# Altium integrated library TI Data Converters Digital to Analog Converter.IntLib: 1533 symbols (part 13 of 99)
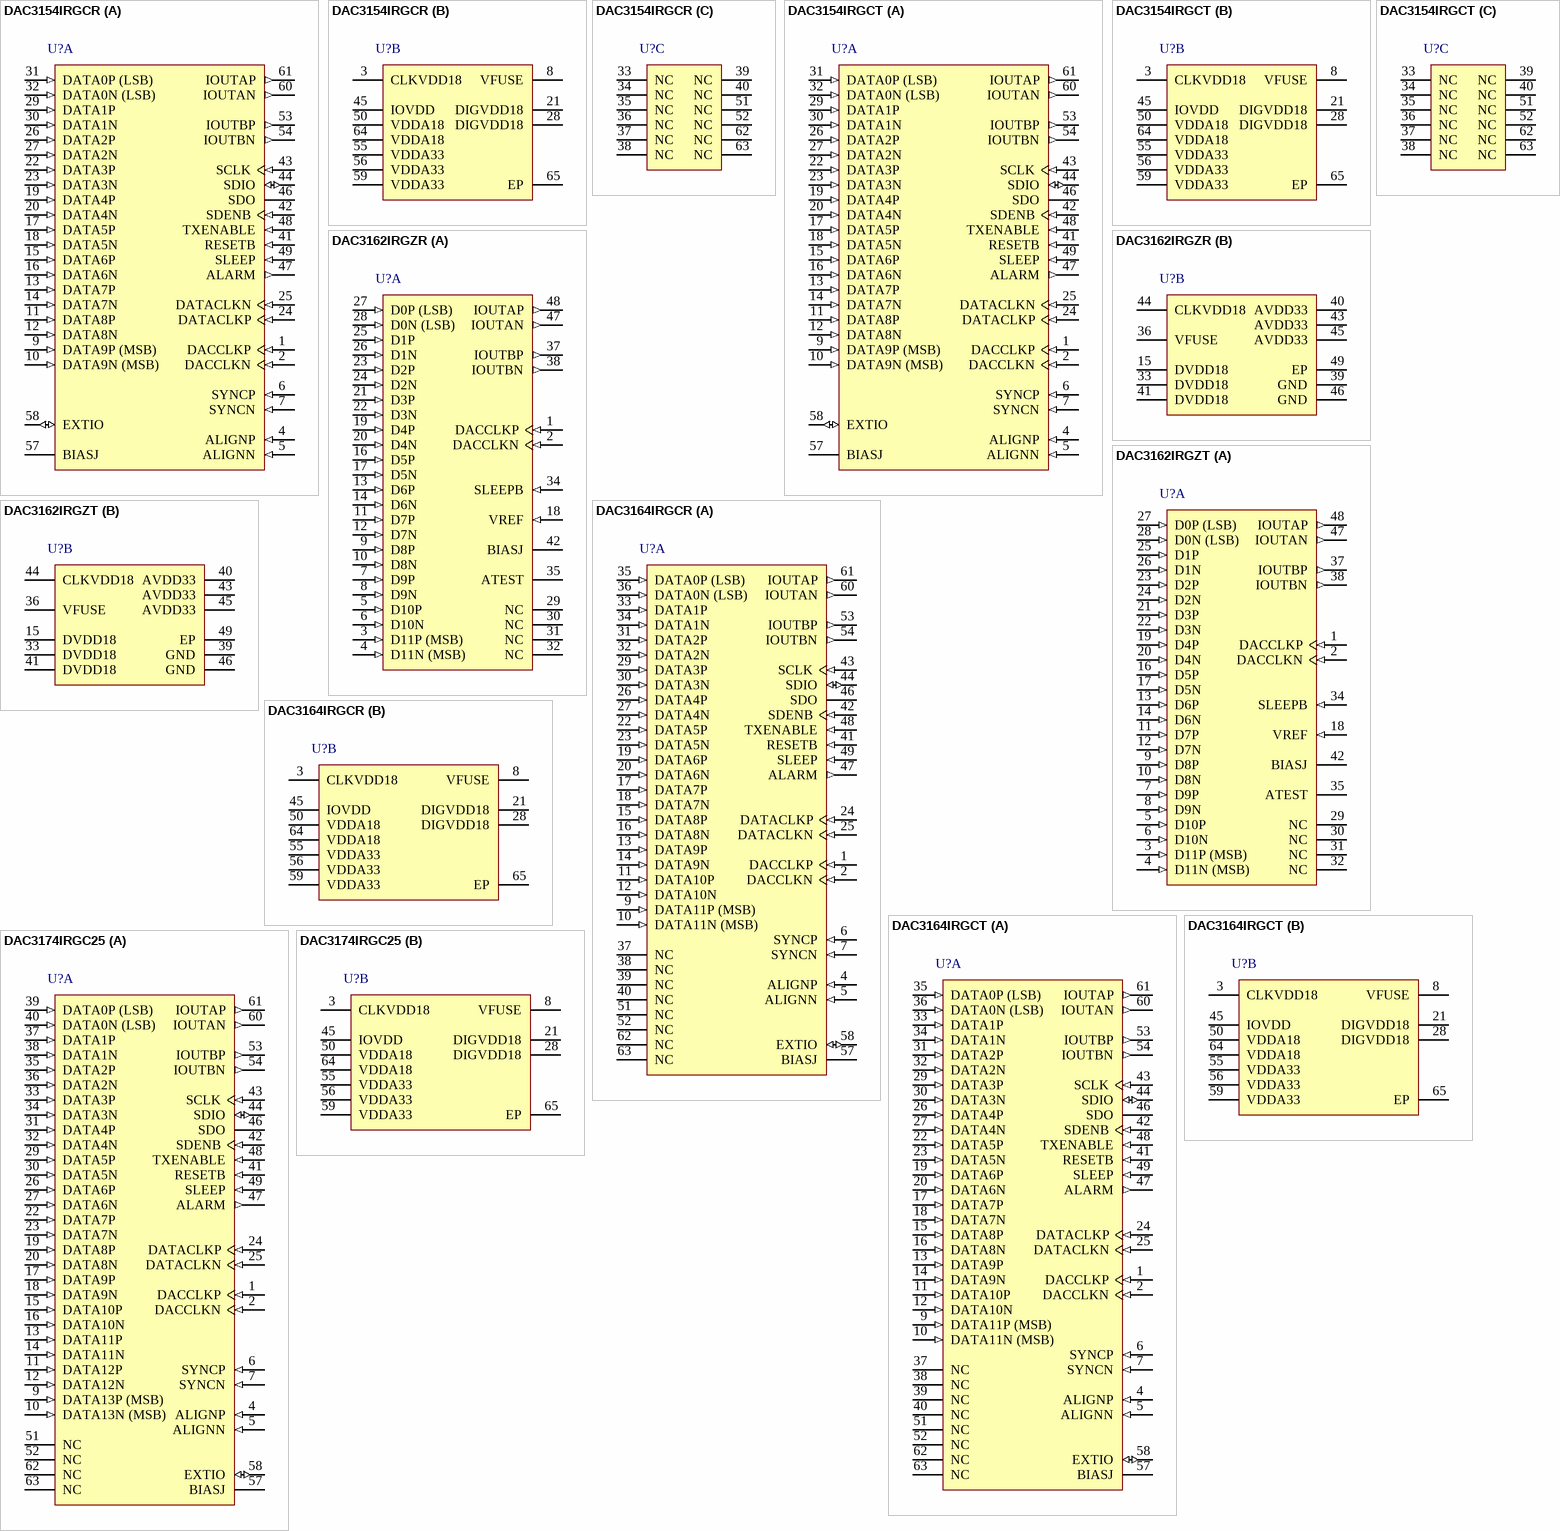
[diagram p85: symbols DAC3154IRGCR to DAC3174IRGC25]

## DAC3154IRGCR
designator U?
Dual 10-Bit 500 MSPS Digital to Analog Converter, -40 to 85 degC, 64-pin QFN (RGC64), Green (RoHS & no Sb/Br); Manufacturer: Texas Instruments; PartNumber: DAC3154IRGCR; DAC Channels: 2; Power Consumption(Typ)(mW): 464; Resolution(Bits): 10; Settling Time(us): 0.011; SFDR(dB): 81; SubFamily: High Speed DAC (>10MSPS); DatasheetVersion: SLAS960; PackageVersion: 4204106/F, 11/2011; PackageReference: RGC64-7400X7400TP; PackageDescription: 64-Pin Plastic Quad Flatpack No-Lead, Body 9 x 9 mm, Pitch 0.5 mm; Eco-Plan: Green (RoHS & no Sb/Br); Mounting Technology: Surface Mount; ComponentLink1Description: Manufacturer URL; ComponentLink1URL: http://www.ti.com/; ComponentLink2Description: Datasheet; ComponentLink2URL: http://www.ti.com/lit/ds/symlink/dac3154.pdf; ComponentLink3Description: Package Specification; ComponentLink3URL: http://www.ti.com/litv/pdf/mpqf125e
footprint TI-RGC64-7400X7400TP_V (QFN, 64-Leads, Body 9x9mm, Pitch 0.5mm, Thermal Pad 7.4x7.4mm, TI Recommended)
part A pins: 1 DACCLKP (in) "LVPECL clock input for DAC core with a self-bias of approximately CLKVDD18/2.", 2 DACCLKN (in) "LVPECL clock input for DAC core with a self-bias of approximately CLKVDD18/2.", 4 ALIGNP (in) "LVPECL FIFO output syncrhonization. This positive/negative pair is captured with the rising edge of DACCLKP/N. It is used to reset the clock dividers and for multiple DAC synchronization. If unused it can be left unconnected.", 5 ALIGNN (in) "LVPECL FIFO output syncrhonization. This positive/negative pair is captured with the rising edge of DACCLKP/N. It is used to reset the clock dividers and for multiple DAC synchronization. If unused it can be left unconnected.", 6 SYNCP (in) "Reset the FIFO or to be used as a syncing source. These two functions are captured with the rising edge of DATACLKP/N. The signal captured by the falling edge of DATACLKP/N.", 7 SYNCN (in) "Reset the FIFO or to be used as a syncing source. These two functions are captured with the rising edge of DATACLKP/N. The signal captured by the falling edge of DATACLKP/N.", 9 DATA9P (MSB) (in) "LVDS input data bits for both channels. Each positive/negative LVDS pair has an internal 100 Ohm termination resistor. Data format relative to DATACLKP/N clock is Double Data Rate (DDR) with two data transfers per DATACKP/N (See Datasheet)", 10 DATA9N (MSB) (in) "LVDS input data bits for both channels. Each positive/negative LVDS pair has an internal 100 Ohm termination resistor. Data format relative to DATACLKP/N clock is Double Data Rate (DDR) with two data transfers per DATACKP/N (See Datasheet)", 11 DATA8P (in) "LVDS input data bits for both channels. Each positive/negative LVDS pair has an internal 100 Ohm termination resistor. Data format relative to DATACLKP/N clock is Double Data Rate (DDR) with two data transfers per DATACKP/N (See Datasheet)", 12 DATA8N (in) "LVDS input data bits for both channels. Each positive/negative LVDS pair has an internal 100 Ohm termination resistor. Data format relative to DATACLKP/N clock is Double Data Rate (DDR) with two data transfers per DATACKP/N (See Datasheet)", 13 DATA7P (in) "LVDS input data bits for both channels. Each positive/negative LVDS pair has an internal 100 Ohm termination resistor. Data format relative to DATACLKP/N clock is Double Data Rate (DDR) with two data transfers per DATACKP/N (See Datasheet)", 14 DATA7N (in) "LVDS input data bits for both channels. Each positive/negative LVDS pair has an internal 100 Ohm termination resistor. Data format relative to DATACLKP/N clock is Double Data Rate (DDR) with two data transfers per DATACKP/N (See Datasheet)", 15 DATA6P (in) "LVDS input data bits for both channels. Each positive/negative LVDS pair has an internal 100 Ohm termination resistor. Data format relative to DATACLKP/N clock is Double Data Rate (DDR) with two data transfers per DATACKP/N (See Datasheet)", 16 DATA6N (in) "LVDS input data bits for both channels. Each positive/negative LVDS pair has an internal 100 Ohm termination resistor. Data format relative to DATACLKP/N clock is Double Data Rate (DDR) with two data transfers per DATACKP/N (See Datasheet)", 17 DATA5P (in) "LVDS input data bits for both channels. Each positive/negative LVDS pair has an internal 100 Ohm termination resistor. Data format relative to DATACLKP/N clock is Double Data Rate (DDR) with two data transfers per DATACKP/N (See Datasheet)", 18 DATA5N (in) "LVDS input data bits for both channels. Each positive/negative LVDS pair has an internal 100 Ohm termination resistor. Data format relative to DATACLKP/N clock is Double Data Rate (DDR) with two data transfers per DATACKP/N (See Datasheet)", 19 DATA4P (in) "LVDS input data bits for both channels. Each positive/negative LVDS pair has an internal 100 Ohm termination resistor. Data format relative to DATACLKP/N clock is Double Data Rate (DDR) with two data transfers per DATACKP/N (See Datasheet)", 20 DATA4N (in) "LVDS input data bits for both channels. Each positive/negative LVDS pair has an internal 100 Ohm termination resistor. Data format relative to DATACLKP/N clock is Double Data Rate (DDR) with two data transfers per DATACKP/N (See Datasheet)", 22 DATA3P (in) "LVDS input data bits for both channels. Each positive/negative LVDS pair has an internal 100 Ohm termination resistor. Data format relative to DATACLKP/N clock is Double Data Rate (DDR) with two data transfers per DATACKP/N (See Datasheet)", 23 DATA3N (in) "LVDS input data bits for both channels. Each positive/negative LVDS pair has an internal 100 Ohm termination resistor. Data format relative to DATACLKP/N clock is Double Data Rate (DDR) with two data transfers per DATACKP/N (See Datasheet)", 24 DATACLKP (in) "DDR differential input data clock. Edge to center nominal timing. Ch A rising edge, Ch B falling edge in multiplexed output mode.", 25 DATACLKN (in) "DDR differential input data clock. Edge to center nominal timing. Ch A rising edge, Ch B falling edge in multiplexed output mode.", 26 DATA2P (in) "LVDS input data bits for both channels. Each positive/negative LVDS pair has an internal 100 Ohm termination resistor. Data format relative to DATACLKP/N clock is Double Data Rate (DDR) with two data transfers per DATACKP/N (See Datasheet)", 27 DATA2N (in) "LVDS input data bits for both channels. Each positive/negative LVDS pair has an internal 100 Ohm termination resistor. Data format relative to DATACLKP/N clock is Double Data Rate (DDR) with two data transfers per DATACKP/N (See Datasheet)", 29 DATA1P (in) "LVDS input data bits for both channels. Each positive/negative LVDS pair has an internal 100 Ohm termination resistor. Data format relative to DATACLKP/N clock is Double Data Rate (DDR) with two data transfers per DATACKP/N (See Datasheet)", 30 DATA1N (in) "LVDS input data bits for both channels. Each positive/negative LVDS pair has an internal 100 Ohm termination resistor. Data format relative to DATACLKP/N clock is Double Data Rate (DDR) with two data transfers per DATACKP/N (See Datasheet)", 31 DATA0P (LSB) (in) "LVDS input data bits for both channels. Each positive/negative LVDS pair has an internal 100 Ohm termination resistor. Data format relative to DATACLKP/N clock is Double Data Rate (DDR) with two data transfers per DATACKP/N (See Datasheet)", 32 DATA0N (LSB) (in) "LVDS input data bits for both channels. Each positive/negative LVDS pair has an internal 100 Ohm termination resistor. Data format relative to DATACLKP/N clock is Double Data Rate (DDR) with two data transfers per DATACKP/N (See Datasheet)", 41 RESETB (in) "Serial interface reset input. Active low. Initialized internal registers during high to low transition. Assynchronous. Internal pull-up.", 42 SDENB (in) "Serial interface clock. Internal pull-up.", 43 SCLK (in) "Serial interface clock. Internal pull-down.", 44 SDIO (io) "Bi-directional serial data in 3 pin mode (default). In 4-pin interface mode (register XYZ), the SDIO pin in an input only. Internal Pull-down.", 46 SDO (hiz) "Uni-directional serial interface data in 4 pin mode (register XYZ). The SDO pin is tri-stated in 3-pin interface mode (default). Internal Pulldown.", 47 ALARM (out) "CMOS output for ALARM condition.", 48 TXENABLE (in) "Transmit enable active high input. TXENABLE must be high for the DATA to the DAC to be enabled. When TXENABLE is low, the digital logic section is forced to all 0, and any input data is ignored. Internal pull-down.", 49 SLEEP (in) "Puts device in sleep, active high. Internal pull-down.", 53 IOUTBP (out) "B-Channel DAC current output. An offset binary data pattern of 0x0000 at the DAC input results in a full scale current source and the most positive voltage on the IOUTBP pin. Similarly, a 0xFFFF data input results in a 0 mA (See Datasheet)", 54 IOUTBN (out) "B-Channel DAC current output. An offset binary data pattern of 0x0000 at the DAC input results in a full scale current source and the most positive voltage on the IOUTBP pin. Similarly, a 0xFFFF data input results in a 0 mA (See Datasheet)", 57 BIASJ "Full-scale output current bias. For 20 mA full-scale output current, connect a 960 Ohm resistor to GND.", 58 EXTIO (io) "Used as external reference input when internal reference is disabled. Requires a 0.1 uF decoupling capacitor to GND when used as reference output.", 60 IOUTAN (out) "A-Channel DAC current output. An offset binary data pattern of 0x0000 at the DAC input results in a full scale current source and the most positive voltage on the IOUTAP pin. Similarly, a 0xFFFF data input results in a 0 mA (See Datasheet)", 61 IOUTAP (out) "A-Channel DAC current output. An offset binary data pattern of 0x0000 at the DAC input results in a full scale current source and the most positive voltage on the IOUTAP pin. Similarly, a 0xFFFF data input results in a 0 mA (See Datasheet)"
part B pins: 3 CLKVDD18 (power) "1.8V clock supply", 8 VFUSE (power) "Digital supply voltage. (1.8V) This supply pin is also used for factory fuse programming. Connect to DVDD pins for normal operation.", 21 DIGVDD18 (power) "1.8V digital supply. Also supplies LVDS receivers.", 28 DIGVDD18 (power) "1.8V digital supply. Also supplies LVDS receivers.", 45 IOVDD (power) "Supply voltage for CMOS IO’s. 1.8V - 3.3V.", 50 VDDA18 (power) "Analog 1.8V supply", 55 VDDA33 (power) "Analog 3.3V supply", 56 VDDA33 (power) "Analog 3.3V supply", 59 VDDA33 (power) "Analog 3.3V supply", 64 VDDA18 (power) "Analog 1.8V supply", 65 EP (power)
part C pins: 33 NC "Not used. These pins can be left open or tied to GROUND in actual application use.", 34 NC "Not used. These pins can be left open or tied to GROUND in actual application use.", 35 NC "Not used. These pins can be left open or tied to GROUND in actual application use.", 36 NC "Not used. These pins can be left open or tied to GROUND in actual application use.", 37 NC "Not used. These pins can be left open or tied to GROUND in actual application use.", 38 NC "Not used. These pins can be left open or tied to GROUND in actual application use.", 39 NC "Not used. These pins can be left open or tied to GROUND in actual application use.", 40 NC "Not used. These pins can be left open or tied to GROUND in actual application use.", 51 NC "Not used. These pins can be left open or tied to GROUND in actual application use.", 52 NC "Not used. These pins can be left open or tied to GROUND in actual application use.", 62 NC "Not used. These pins can be left open or tied to GROUND in actual application use.", 63 NC "Not used. These pins can be left open or tied to GROUND in actual application use."

## DAC3154IRGCT
designator U?
Dual 10-Bit 500 MSPS Digital to Analog Converter, -40 to 85 degC, 64-pin QFN (RGC64), Green (RoHS & no Sb/Br); Manufacturer: Texas Instruments; PartNumber: DAC3154IRGCT; DAC Channels: 2; Power Consumption(Typ)(mW): 464; Resolution(Bits): 10; Settling Time(us): 0.011; SFDR(dB): 81; SubFamily: High Speed DAC (>10MSPS); DatasheetVersion: SLAS960; PackageVersion: 4204106/F, 11/2011; PackageReference: RGC64-7400X7400TP; PackageDescription: 64-Pin Plastic Quad Flatpack No-Lead, Body 9 x 9 mm, Pitch 0.5 mm; Supplier 1: Digi-Key; Supplier Part Number 1: DAC3154IRGCT-ND; Eco-Plan: Green (RoHS & no Sb/Br); Mounting Technology: Surface Mount; ComponentLink1Description: Manufacturer URL; ComponentLink1URL: http://www.ti.com/; ComponentLink2Description: Datasheet; ComponentLink2URL: http://www.ti.com/lit/ds/symlink/dac3154.pdf; ComponentLink3Description: Package Specification; ComponentLink3URL: http://www.ti.com/litv/pdf/mpqf125e
footprint TI-RGC64-7400X7400TP_V (QFN, 64-Leads, Body 9x9mm, Pitch 0.5mm, Thermal Pad 7.4x7.4mm, TI Recommended)
part A pins: 1 DACCLKP (in) "LVPECL clock input for DAC core with a self-bias of approximately CLKVDD18/2.", 2 DACCLKN (in) "LVPECL clock input for DAC core with a self-bias of approximately CLKVDD18/2.", 4 ALIGNP (in) "LVPECL FIFO output syncrhonization. This positive/negative pair is captured with the rising edge of DACCLKP/N. It is used to reset the clock dividers and for multiple DAC synchronization. If unused it can be left unconnected.", 5 ALIGNN (in) "LVPECL FIFO output syncrhonization. This positive/negative pair is captured with the rising edge of DACCLKP/N. It is used to reset the clock dividers and for multiple DAC synchronization. If unused it can be left unconnected.", 6 SYNCP (in) "Reset the FIFO or to be used as a syncing source. These two functions are captured with the rising edge of DATACLKP/N. The signal captured by the falling edge of DATACLKP/N.", 7 SYNCN (in) "Reset the FIFO or to be used as a syncing source. These two functions are captured with the rising edge of DATACLKP/N. The signal captured by the falling edge of DATACLKP/N.", 9 DATA9P (MSB) (in) "LVDS input data bits for both channels. Each positive/negative LVDS pair has an internal 100 Ohm termination resistor. Data format relative to DATACLKP/N clock is Double Data Rate (DDR) with two data transfers per DATACKP/N (See Datasheet)", 10 DATA9N (MSB) (in) "LVDS input data bits for both channels. Each positive/negative LVDS pair has an internal 100 Ohm termination resistor. Data format relative to DATACLKP/N clock is Double Data Rate (DDR) with two data transfers per DATACKP/N (See Datasheet)", 11 DATA8P (in) "LVDS input data bits for both channels. Each positive/negative LVDS pair has an internal 100 Ohm termination resistor. Data format relative to DATACLKP/N clock is Double Data Rate (DDR) with two data transfers per DATACKP/N (See Datasheet)", 12 DATA8N (in) "LVDS input data bits for both channels. Each positive/negative LVDS pair has an internal 100 Ohm termination resistor. Data format relative to DATACLKP/N clock is Double Data Rate (DDR) with two data transfers per DATACKP/N (See Datasheet)", 13 DATA7P (in) "LVDS input data bits for both channels. Each positive/negative LVDS pair has an internal 100 Ohm termination resistor. Data format relative to DATACLKP/N clock is Double Data Rate (DDR) with two data transfers per DATACKP/N (See Datasheet)", 14 DATA7N (in) "LVDS input data bits for both channels. Each positive/negative LVDS pair has an internal 100 Ohm termination resistor. Data format relative to DATACLKP/N clock is Double Data Rate (DDR) with two data transfers per DATACKP/N (See Datasheet)", 15 DATA6P (in) "LVDS input data bits for both channels. Each positive/negative LVDS pair has an internal 100 Ohm termination resistor. Data format relative to DATACLKP/N clock is Double Data Rate (DDR) with two data transfers per DATACKP/N (See Datasheet)", 16 DATA6N (in) "LVDS input data bits for both channels. Each positive/negative LVDS pair has an internal 100 Ohm termination resistor. Data format relative to DATACLKP/N clock is Double Data Rate (DDR) with two data transfers per DATACKP/N (See Datasheet)", 17 DATA5P (in) "LVDS input data bits for both channels. Each positive/negative LVDS pair has an internal 100 Ohm termination resistor. Data format relative to DATACLKP/N clock is Double Data Rate (DDR) with two data transfers per DATACKP/N (See Datasheet)", 18 DATA5N (in) "LVDS input data bits for both channels. Each positive/negative LVDS pair has an internal 100 Ohm termination resistor. Data format relative to DATACLKP/N clock is Double Data Rate (DDR) with two data transfers per DATACKP/N (See Datasheet)", 19 DATA4P (in) "LVDS input data bits for both channels. Each positive/negative LVDS pair has an internal 100 Ohm termination resistor. Data format relative to DATACLKP/N clock is Double Data Rate (DDR) with two data transfers per DATACKP/N (See Datasheet)", 20 DATA4N (in) "LVDS input data bits for both channels. Each positive/negative LVDS pair has an internal 100 Ohm termination resistor. Data format relative to DATACLKP/N clock is Double Data Rate (DDR) with two data transfers per DATACKP/N (See Datasheet)", 22 DATA3P (in) "LVDS input data bits for both channels. Each positive/negative LVDS pair has an internal 100 Ohm termination resistor. Data format relative to DATACLKP/N clock is Double Data Rate (DDR) with two data transfers per DATACKP/N (See Datasheet)", 23 DATA3N (in) "LVDS input data bits for both channels. Each positive/negative LVDS pair has an internal 100 Ohm termination resistor. Data format relative to DATACLKP/N clock is Double Data Rate (DDR) with two data transfers per DATACKP/N (See Datasheet)", 24 DATACLKP (in) "DDR differential input data clock. Edge to center nominal timing. Ch A rising edge, Ch B falling edge in multiplexed output mode.", 25 DATACLKN (in) "DDR differential input data clock. Edge to center nominal timing. Ch A rising edge, Ch B falling edge in multiplexed output mode.", 26 DATA2P (in) "LVDS input data bits for both channels. Each positive/negative LVDS pair has an internal 100 Ohm termination resistor. Data format relative to DATACLKP/N clock is Double Data Rate (DDR) with two data transfers per DATACKP/N (See Datasheet)", 27 DATA2N (in) "LVDS input data bits for both channels. Each positive/negative LVDS pair has an internal 100 Ohm termination resistor. Data format relative to DATACLKP/N clock is Double Data Rate (DDR) with two data transfers per DATACKP/N (See Datasheet)", 29 DATA1P (in) "LVDS input data bits for both channels. Each positive/negative LVDS pair has an internal 100 Ohm termination resistor. Data format relative to DATACLKP/N clock is Double Data Rate (DDR) with two data transfers per DATACKP/N (See Datasheet)", 30 DATA1N (in) "LVDS input data bits for both channels. Each positive/negative LVDS pair has an internal 100 Ohm termination resistor. Data format relative to DATACLKP/N clock is Double Data Rate (DDR) with two data transfers per DATACKP/N (See Datasheet)", 31 DATA0P (LSB) (in) "LVDS input data bits for both channels. Each positive/negative LVDS pair has an internal 100 Ohm termination resistor. Data format relative to DATACLKP/N clock is Double Data Rate (DDR) with two data transfers per DATACKP/N (See Datasheet)", 32 DATA0N (LSB) (in) "LVDS input data bits for both channels. Each positive/negative LVDS pair has an internal 100 Ohm termination resistor. Data format relative to DATACLKP/N clock is Double Data Rate (DDR) with two data transfers per DATACKP/N (See Datasheet)", 41 RESETB (in) "Serial interface reset input. Active low. Initialized internal registers during high to low transition. Assynchronous. Internal pull-up.", 42 SDENB (in) "Serial interface clock. Internal pull-up.", 43 SCLK (in) "Serial interface clock. Internal pull-down.", 44 SDIO (io) "Bi-directional serial data in 3 pin mode (default). In 4-pin interface mode (register XYZ), the SDIO pin in an input only. Internal Pull-down.", 46 SDO (hiz) "Uni-directional serial interface data in 4 pin mode (register XYZ). The SDO pin is tri-stated in 3-pin interface mode (default). Internal Pulldown.", 47 ALARM (out) "CMOS output for ALARM condition.", 48 TXENABLE (in) "Transmit enable active high input. TXENABLE must be high for the DATA to the DAC to be enabled. When TXENABLE is low, the digital logic section is forced to all 0, and any input data is ignored. Internal pull-down.", 49 SLEEP (in) "Puts device in sleep, active high. Internal pull-down.", 53 IOUTBP (out) "B-Channel DAC current output. An offset binary data pattern of 0x0000 at the DAC input results in a full scale current source and the most positive voltage on the IOUTBP pin. Similarly, a 0xFFFF data input results in a 0 mA (See Datasheet)", 54 IOUTBN (out) "B-Channel DAC current output. An offset binary data pattern of 0x0000 at the DAC input results in a full scale current source and the most positive voltage on the IOUTBP pin. Similarly, a 0xFFFF data input results in a 0 mA (See Datasheet)", 57 BIASJ "Full-scale output current bias. For 20 mA full-scale output current, connect a 960 Ohm resistor to GND.", 58 EXTIO (io) "Used as external reference input when internal reference is disabled. Requires a 0.1 uF decoupling capacitor to GND when used as reference output.", 60 IOUTAN (out) "A-Channel DAC current output. An offset binary data pattern of 0x0000 at the DAC input results in a full scale current source and the most positive voltage on the IOUTAP pin. Similarly, a 0xFFFF data input results in a 0 mA (See Datasheet)", 61 IOUTAP (out) "A-Channel DAC current output. An offset binary data pattern of 0x0000 at the DAC input results in a full scale current source and the most positive voltage on the IOUTAP pin. Similarly, a 0xFFFF data input results in a 0 mA (See Datasheet)"
part B pins: 3 CLKVDD18 (power) "1.8V clock supply", 8 VFUSE (power) "Digital supply voltage. (1.8V) This supply pin is also used for factory fuse programming. Connect to DVDD pins for normal operation.", 21 DIGVDD18 (power) "1.8V digital supply. Also supplies LVDS receivers.", 28 DIGVDD18 (power) "1.8V digital supply. Also supplies LVDS receivers.", 45 IOVDD (power) "Supply voltage for CMOS IO’s. 1.8V - 3.3V.", 50 VDDA18 (power) "Analog 1.8V supply", 55 VDDA33 (power) "Analog 3.3V supply", 56 VDDA33 (power) "Analog 3.3V supply", 59 VDDA33 (power) "Analog 3.3V supply", 64 VDDA18 (power) "Analog 1.8V supply", 65 EP (power)
part C pins: 33 NC "Not used. These pins can be left open or tied to GROUND in actual application use.", 34 NC "Not used. These pins can be left open or tied to GROUND in actual application use.", 35 NC "Not used. These pins can be left open or tied to GROUND in actual application use.", 36 NC "Not used. These pins can be left open or tied to GROUND in actual application use.", 37 NC "Not used. These pins can be left open or tied to GROUND in actual application use.", 38 NC "Not used. These pins can be left open or tied to GROUND in actual application use.", 39 NC "Not used. These pins can be left open or tied to GROUND in actual application use.", 40 NC "Not used. These pins can be left open or tied to GROUND in actual application use.", 51 NC "Not used. These pins can be left open or tied to GROUND in actual application use.", 52 NC "Not used. These pins can be left open or tied to GROUND in actual application use.", 62 NC "Not used. These pins can be left open or tied to GROUND in actual application use.", 63 NC "Not used. These pins can be left open or tied to GROUND in actual application use."

## DAC3162IRGZR
designator U?
Dual-Channel, 12-Bit, 500 MSPS DAC, -40 to 85 DegC, 48-Pin QFN (RGZ48), Green (RoHS & no Sb/Br); Manufacturer: Texas Instruments; PartNumber: DAC3162IRGZR; DAC Channels: 2; Interface: Parallel LVDS; Power Consumption(Typ)(mW): 278; Resolution(Bits): 12; Settling Time(us): 0.01; SFDR(dB): 79; SubFamily: High Speed DAC (>10MSPS); DatasheetVersion: SLAS736D; PackageVersion: 4204101/F, 06/2011; PackageReference: RGZ48-5600X5600TP; PackageDescription: 48-Lead, Plastic Flat Pack, Body Size 7 x 7 mm, Pitch 0.5 mm; Supplier 1: Digi-Key; Supplier Part Number 1: DAC3162IRGZR-ND; Supplier 2: Newark; Supplier Part Number 2: 76T6001; Supplier 3: Mouser; Supplier Part Number 3: 595-DAC3162IRGZR; Eco-Plan: Green (RoHS & no Sb/Br); Mounting Technology: Surface Mount; Code_JEDEC: MO-220; ComponentLink1Description: Manufacturer URL; ComponentLink1URL: http://www.ti.com/; ComponentLink2Description: Datasheet; ComponentLink2URL: http://www.ti.com/general/docs/lit/getliterature.tsp?genericPartNumber=DAC3162&fileType=pdf; ComponentLink3Description: Package Specification; ComponentLink3URL: http://www.ti.com/lit/ml/mpqf123e/mpqf123e.pdf
footprint TI-RGZ48-5600X5600TP_V (QFN, 48-Leads, Body 7x7mm, Pitch 0.5mm, Thermal Pad 5.6x5.6mm)
part A pins: 1 DACCLKP (in) "Positive external LVPECL clock input with a self-bias of approximately CLKVDD18/2. Input data is latched on both edges of DACCLKP/N (double data rate). The LVPECL clock signal should be AC coupled.", 2 DACCLKN (in) "Complementary external LVPECL clock input (see the DACCLKP description). The LVPECL clock signal should be AC coupled.", 3 D11P (MSB) (in) "LVDS positive-input data bits 0 through 11. Each positive/negative LVDS pair has an internal 100-ohm termination resistor. Data format relative to DACCLKP/N clock is double data rate (DDR) with two data transfers per (See Datasheet)", 4 D11N (MSB) (in) "LVDS negative-input data bits 0 through 11. (See D[9:0]P description) D9N is most-significant data bit (MSB) - pin 4 D0N is least-significant data bit (LSB) - pin 28", 5 D10P (in) "LVDS positive-input data bits 0 through 11. Each positive/negative LVDS pair has an internal 100-ohm termination resistor. Data format relative to DACCLKP/N clock is double data rate (DDR) with two data transfers per (See Datasheet)", 6 D10N (in) "LVDS negative-input data bits 0 through 11. (See D[9:0]P description) D9N is most-significant data bit (MSB) - pin 4 D0N is least-significant data bit (LSB) - pin 28", 7 D9P (in) "LVDS positive-input data bits 0 through 11. Each positive/negative LVDS pair has an internal 100-ohm termination resistor. Data format relative to DACCLKP/N clock is double data rate (DDR) with two data transfers per (See Datasheet)", 8 D9N (in) "LVDS negative-input data bits 0 through 11. (See D[9:0]P description) D9N is most-significant data bit (MSB) - pin 4 D0N is least-significant data bit (LSB) - pin 28", 9 D8P (in) "LVDS positive-input data bits 0 through 11. Each positive/negative LVDS pair has an internal 100-ohm termination resistor. Data format relative to DACCLKP/N clock is double data rate (DDR) with two data transfers per (See Datasheet)", 10 D8N (in) "LVDS negative-input data bits 0 through 11. (See D[9:0]P description) D9N is most-significant data bit (MSB) - pin 4 D0N is least-significant data bit (LSB) - pin 28", 11 D7P (in) "LVDS positive-input data bits 0 through 11. Each positive/negative LVDS pair has an internal 100-ohm termination resistor. Data format relative to DACCLKP/N clock is double data rate (DDR) with two data transfers per (See Datasheet)", 12 D7N (in) "LVDS negative-input data bits 0 through 11. (See D[9:0]P description) D9N is most-significant data bit (MSB) - pin 4 D0N is least-significant data bit (LSB) - pin 28", 13 D6P (in) "LVDS positive-input data bits 0 through 11. Each positive/negative LVDS pair has an internal 100-ohm termination resistor. Data format relative to DACCLKP/N clock is double data rate (DDR) with two data transfers per (See Datasheet)", 14 D6N (in) "LVDS negative-input data bits 0 through 11. (See D[9:0]P description) D9N is most-significant data bit (MSB) - pin 4 D0N is least-significant data bit (LSB) - pin 28", 16 D5P (in) "LVDS positive-input data bits 0 through 11. Each positive/negative LVDS pair has an internal 100-ohm termination resistor. Data format relative to DACCLKP/N clock is double data rate (DDR) with two data transfers per (See Datasheet)", 17 D5N (in) "LVDS negative-input data bits 0 through 11. (See D[9:0]P description) D9N is most-significant data bit (MSB) - pin 4 D0N is least-significant data bit (LSB) - pin 28", 18 VREF (in) "Factory use only. Connect to a 0.1-uF decoupling capacitor to GND.", 19 D4P (in) "LVDS positive-input data bits 0 through 11. Each positive/negative LVDS pair has an internal 100-ohm termination resistor. Data format relative to DACCLKP/N clock is double data rate (DDR) with two data transfers per (See Datasheet)", 20 D4N (in) "LVDS negative-input data bits 0 through 11. (See D[9:0]P description) D9N is most-significant data bit (MSB) - pin 4 D0N is least-significant data bit (LSB) - pin 28", 21 D3P (in) "LVDS positive-input data bits 0 through 11. Each positive/negative LVDS pair has an internal 100-ohm termination resistor. Data format relative to DACCLKP/N clock is double data rate (DDR) with two data transfers per (See Datasheet)", 22 D3N (in) "LVDS negative-input data bits 0 through 11. (See D[9:0]P description) D9N is most-significant data bit (MSB) - pin 4 D0N is least-significant data bit (LSB) - pin 28", 23 D2P (in) "LVDS positive-input data bits 0 through 11. Each positive/negative LVDS pair has an internal 100-ohm termination resistor. Data format relative to DACCLKP/N clock is double data rate (DDR) with two data transfers per (See Datasheet)", 24 D2N (in) "LVDS negative-input data bits 0 through 11. (See D[9:0]P description) D9N is most-significant data bit (MSB) - pin 4 D0N is least-significant data bit (LSB) - pin 28", 25 D1P (in) "LVDS positive-input data bits 0 through 11. Each positive/negative LVDS pair has an internal 100-ohm termination resistor. Data format relative to DACCLKP/N clock is double data rate (DDR) with two data transfers per (See Datasheet)", 26 D1N (in) "LVDS negative-input data bits 0 through 11. (See D[9:0]P description) D9N is most-significant data bit (MSB) - pin 4 D0N is least-significant data bit (LSB) - pin 28", 27 D0P (LSB) (in) "LVDS positive-input data bits 0 through 11. Each positive/negative LVDS pair has an internal 100-ohm termination resistor. Data format relative to DACCLKP/N clock is double data rate (DDR) with two data transfers per (See Datasheet)", 28 D0N (LSB) (in) "LVDS negative-input data bits 0 through 11. (See D[9:0]P description) D9N is most-significant data bit (MSB) - pin 4 D0N is least-significant data bit (LSB) - pin 28", 29 NC "No connect. Leave unconnected for normal operation.", 30 NC "No connect. Leave unconnected for normal operation.", 31 NC "No connect. Leave unconnected for normal operation.", 32 NC "No connect. Leave unconnected for normal operation.", 34 SLEEPB (in) "Connect to GND to put the device in sleep mode or to AVDD for active mode. Internal pullup", 35 ATEST "Factory use only. Leave unconnected for normal operation.", 37 IOUTBP (out) "B-channel DAC current output. See the IOUTAP description.", 38 IOUTBN (out) "B-channel DAC complementary current output. See the IOUTAN description.", 42 BIASJ "Full-scale output current bias. For 20-mA full-scale output current, connect a 960-ohm resistor to GND.", 47 IOUTAN (out) "A-channel DAC complementary current output. IOUTAN has the opposite behavior of the IOUTAP described for IOUTAP. An input data value of 0x0000 results in a 0-mA sink and the most-positive voltage on the IOUTAN pin.", 48 IOUTAP (out) "A-channel DAC current output. An offset binary data pattern of 0x0000 at the DAC input results in a full-scale current sink and the least-positive voltage on the IOUTAP pin. Similarly, a 0x3FF data input results in a 0-mA (See Datasheet)"
part B pins: 15 DVDD18 (power) "Digital supply voltage (1.8 V). This supply can be shared with CLKVDD18.", 33 DVDD18 (power) "Digital supply voltage (1.8 V). This supply can be shared with CLKVDD18.", 36 VFUSE (power) "Digital supply voltage (1.8 V). This supply pin is also used for factory fuse programming. Connect to DVDD18 pins for normal operation.", 39 GND (power) "Pins 39 and 46 and the thermal pad located on the bottom of the QFN package are ground for all supplies.", 40 AVDD33 (power) "Analog supply voltage (3.3 V)", 41 DVDD18 (power) "Digital supply voltage (1.8 V). This supply can be shared with CLKVDD18.", 43 AVDD33 (power) "Analog supply voltage (3.3 V)", 44 CLKVDD18 (power) "Internal clock buffer supply voltage (1.8 V) This supply can be shared with DIGVDD18.", 45 AVDD33 (power) "Analog supply voltage (3.3 V)", 46 GND (power) "Pins 39 and 46 and the thermal pad located on the bottom of the QFN package are ground for all supplies.", 49 EP (power) "Pins 39 and 46 and the thermal pad located on the bottom of the QFN package are ground for all supplies."

## DAC3162IRGZT
designator U?
Dual-Channel, 12-Bit, 500 MSPS DAC, -40 to 85 DegC, 48-Pin QFN (RGZ48), Green (RoHS & no Sb/Br); Manufacturer: Texas Instruments; PartNumber: DAC3162IRGZT; DAC Channels: 2; Interface: Parallel LVDS; Power Consumption(Typ)(mW): 278; Resolution(Bits): 12; Settling Time(us): 0.01; SFDR(dB): 79; SubFamily: High Speed DAC (>10MSPS); DatasheetVersion: SLAS736D; PackageVersion: 4204101/F, 06/2011; PackageReference: RGZ48-5600X5600TP; PackageDescription: 48-Lead, Plastic Flat Pack, Body Size 7 x 7 mm, Pitch 0.5 mm; Supplier 1: Digi-Key; Supplier Part Number 1: 296-30071-2-ND; Supplier 2: Digi-Key; Supplier Part Number 2: 296-30071-1-ND; Supplier 3: Digi-Key; Supplier Part Number 3: 296-30071-6-ND; Supplier 4: Farnell; Supplier Part Number 4: 2084397; Supplier 5: Newark; Supplier Part Number 5: 83T1599; Supplier 6: Mouser; Supplier Part Number 6: 595-DAC3162IRGZT; Eco-Plan: Green (RoHS & no Sb/Br); Mounting Technology: Surface Mount; Code_JEDEC: MO-220; ComponentLink1Description: Manufacturer URL; ComponentLink1URL: http://www.ti.com/; ComponentLink2Description: Datasheet; ComponentLink2URL: http://www.ti.com/general/docs/lit/getliterature.tsp?genericPartNumber=DAC3162&fileType=pdf; ComponentLink3Description: Package Specification; ComponentLink3URL: http://www.ti.com/lit/ml/mpqf123e/mpqf123e.pdf
footprint TI-RGZ48-5600X5600TP_V (QFN, 48-Leads, Body 7x7mm, Pitch 0.5mm, Thermal Pad 5.6x5.6mm)
part A pins: 1 DACCLKP (in) "Positive external LVPECL clock input with a self-bias of approximately CLKVDD18/2. Input data is latched on both edges of DACCLKP/N (double data rate). The LVPECL clock signal should be AC coupled.", 2 DACCLKN (in) "Complementary external LVPECL clock input (see the DACCLKP description). The LVPECL clock signal should be AC coupled.", 3 D11P (MSB) (in) "LVDS positive-input data bits 0 through 11. Each positive/negative LVDS pair has an internal 100-ohm termination resistor. Data format relative to DACCLKP/N clock is double data rate (DDR) with two data transfers per (See Datasheet)", 4 D11N (MSB) (in) "LVDS negative-input data bits 0 through 11. (See D[9:0]P description) D9N is most-significant data bit (MSB) - pin 4 D0N is least-significant data bit (LSB) - pin 28", 5 D10P (in) "LVDS positive-input data bits 0 through 11. Each positive/negative LVDS pair has an internal 100-ohm termination resistor. Data format relative to DACCLKP/N clock is double data rate (DDR) with two data transfers per (See Datasheet)", 6 D10N (in) "LVDS negative-input data bits 0 through 11. (See D[9:0]P description) D9N is most-significant data bit (MSB) - pin 4 D0N is least-significant data bit (LSB) - pin 28", 7 D9P (in) "LVDS positive-input data bits 0 through 11. Each positive/negative LVDS pair has an internal 100-ohm termination resistor. Data format relative to DACCLKP/N clock is double data rate (DDR) with two data transfers per (See Datasheet)", 8 D9N (in) "LVDS negative-input data bits 0 through 11. (See D[9:0]P description) D9N is most-significant data bit (MSB) - pin 4 D0N is least-significant data bit (LSB) - pin 28", 9 D8P (in) "LVDS positive-input data bits 0 through 11. Each positive/negative LVDS pair has an internal 100-ohm termination resistor. Data format relative to DACCLKP/N clock is double data rate (DDR) with two data transfers per (See Datasheet)", 10 D8N (in) "LVDS negative-input data bits 0 through 11. (See D[9:0]P description) D9N is most-significant data bit (MSB) - pin 4 D0N is least-significant data bit (LSB) - pin 28", 11 D7P (in) "LVDS positive-input data bits 0 through 11. Each positive/negative LVDS pair has an internal 100-ohm termination resistor. Data format relative to DACCLKP/N clock is double data rate (DDR) with two data transfers per (See Datasheet)", 12 D7N (in) "LVDS negative-input data bits 0 through 11. (See D[9:0]P description) D9N is most-significant data bit (MSB) - pin 4 D0N is least-significant data bit (LSB) - pin 28", 13 D6P (in) "LVDS positive-input data bits 0 through 11. Each positive/negative LVDS pair has an internal 100-ohm termination resistor. Data format relative to DACCLKP/N clock is double data rate (DDR) with two data transfers per (See Datasheet)", 14 D6N (in) "LVDS negative-input data bits 0 through 11. (See D[9:0]P description) D9N is most-significant data bit (MSB) - pin 4 D0N is least-significant data bit (LSB) - pin 28", 16 D5P (in) "LVDS positive-input data bits 0 through 11. Each positive/negative LVDS pair has an internal 100-ohm termination resistor. Data format relative to DACCLKP/N clock is double data rate (DDR) with two data transfers per (See Datasheet)", 17 D5N (in) "LVDS negative-input data bits 0 through 11. (See D[9:0]P description) D9N is most-significant data bit (MSB) - pin 4 D0N is least-significant data bit (LSB) - pin 28", 18 VREF (in) "Factory use only. Connect to a 0.1-uF decoupling capacitor to GND.", 19 D4P (in) "LVDS positive-input data bits 0 through 11. Each positive/negative LVDS pair has an internal 100-ohm termination resistor. Data format relative to DACCLKP/N clock is double data rate (DDR) with two data transfers per (See Datasheet)", 20 D4N (in) "LVDS negative-input data bits 0 through 11. (See D[9:0]P description) D9N is most-significant data bit (MSB) - pin 4 D0N is least-significant data bit (LSB) - pin 28", 21 D3P (in) "LVDS positive-input data bits 0 through 11. Each positive/negative LVDS pair has an internal 100-ohm termination resistor. Data format relative to DACCLKP/N clock is double data rate (DDR) with two data transfers per (See Datasheet)", 22 D3N (in) "LVDS negative-input data bits 0 through 11. (See D[9:0]P description) D9N is most-significant data bit (MSB) - pin 4 D0N is least-significant data bit (LSB) - pin 28", 23 D2P (in) "LVDS positive-input data bits 0 through 11. Each positive/negative LVDS pair has an internal 100-ohm termination resistor. Data format relative to DACCLKP/N clock is double data rate (DDR) with two data transfers per (See Datasheet)", 24 D2N (in) "LVDS negative-input data bits 0 through 11. (See D[9:0]P description) D9N is most-significant data bit (MSB) - pin 4 D0N is least-significant data bit (LSB) - pin 28", 25 D1P (in) "LVDS positive-input data bits 0 through 11. Each positive/negative LVDS pair has an internal 100-ohm termination resistor. Data format relative to DACCLKP/N clock is double data rate (DDR) with two data transfers per (See Datasheet)", 26 D1N (in) "LVDS negative-input data bits 0 through 11. (See D[9:0]P description) D9N is most-significant data bit (MSB) - pin 4 D0N is least-significant data bit (LSB) - pin 28", 27 D0P (LSB) (in) "LVDS positive-input data bits 0 through 11. Each positive/negative LVDS pair has an internal 100-ohm termination resistor. Data format relative to DACCLKP/N clock is double data rate (DDR) with two data transfers per (See Datasheet)", 28 D0N (LSB) (in) "LVDS negative-input data bits 0 through 11. (See D[9:0]P description) D9N is most-significant data bit (MSB) - pin 4 D0N is least-significant data bit (LSB) - pin 28", 29 NC "No connect. Leave unconnected for normal operation.", 30 NC "No connect. Leave unconnected for normal operation.", 31 NC "No connect. Leave unconnected for normal operation.", 32 NC "No connect. Leave unconnected for normal operation.", 34 SLEEPB (in) "Connect to GND to put the device in sleep mode or to AVDD for active mode. Internal pullup", 35 ATEST "Factory use only. Leave unconnected for normal operation.", 37 IOUTBP (out) "B-channel DAC current output. See the IOUTAP description.", 38 IOUTBN (out) "B-channel DAC complementary current output. See the IOUTAN description.", 42 BIASJ "Full-scale output current bias. For 20-mA full-scale output current, connect a 960-ohm resistor to GND.", 47 IOUTAN (out) "A-channel DAC complementary current output. IOUTAN has the opposite behavior of the IOUTAP described for IOUTAP. An input data value of 0x0000 results in a 0-mA sink and the most-positive voltage on the IOUTAN pin.", 48 IOUTAP (out) "A-channel DAC current output. An offset binary data pattern of 0x0000 at the DAC input results in a full-scale current sink and the least-positive voltage on the IOUTAP pin. Similarly, a 0x3FF data input results in a 0-mA (See Datasheet)"
part B pins: 15 DVDD18 (power) "Digital supply voltage (1.8 V). This supply can be shared with CLKVDD18.", 33 DVDD18 (power) "Digital supply voltage (1.8 V). This supply can be shared with CLKVDD18.", 36 VFUSE (power) "Digital supply voltage (1.8 V). This supply pin is also used for factory fuse programming. Connect to DVDD18 pins for normal operation.", 39 GND (power) "Pins 39 and 46 and the thermal pad located on the bottom of the QFN package are ground for all supplies.", 40 AVDD33 (power) "Analog supply voltage (3.3 V)", 41 DVDD18 (power) "Digital supply voltage (1.8 V). This supply can be shared with CLKVDD18.", 43 AVDD33 (power) "Analog supply voltage (3.3 V)", 44 CLKVDD18 (power) "Internal clock buffer supply voltage (1.8 V) This supply can be shared with DIGVDD18.", 45 AVDD33 (power) "Analog supply voltage (3.3 V)", 46 GND (power) "Pins 39 and 46 and the thermal pad located on the bottom of the QFN package are ground for all supplies.", 49 EP (power) "Pins 39 and 46 and the thermal pad located on the bottom of the QFN package are ground for all supplies."